# EAGLE library part BNO055 (library BNO0555)
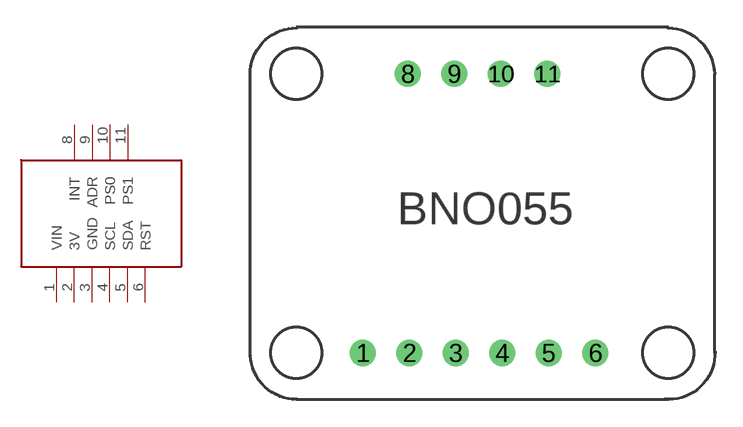
[diagram p0: symbol with the pads of MA06-1; footprint MA06-1]

Designator prefix -

## BNO055  [MA06-1]
1  VIN
2  3V
3  GND
4  SCL
5  SDA
6  RST
8  INT
9  ADR
10  PS0
11  PS1

## Footprint MA06-1 (pad centres in mm)
PIN HEADER
drill 0.6 pad 1.422: 1 6.01,2.53; 2 8.55,2.53; 3 11.09,2.53; 4 13.63,2.53; 5 16.17,2.53; 6 18.71,2.53; 8 8.47,17.78; 9 11.01,17.78; 10 13.55,17.78; 11 16.09,17.78